# EAGLE library part SPEAKJET (library PracticalArduino)
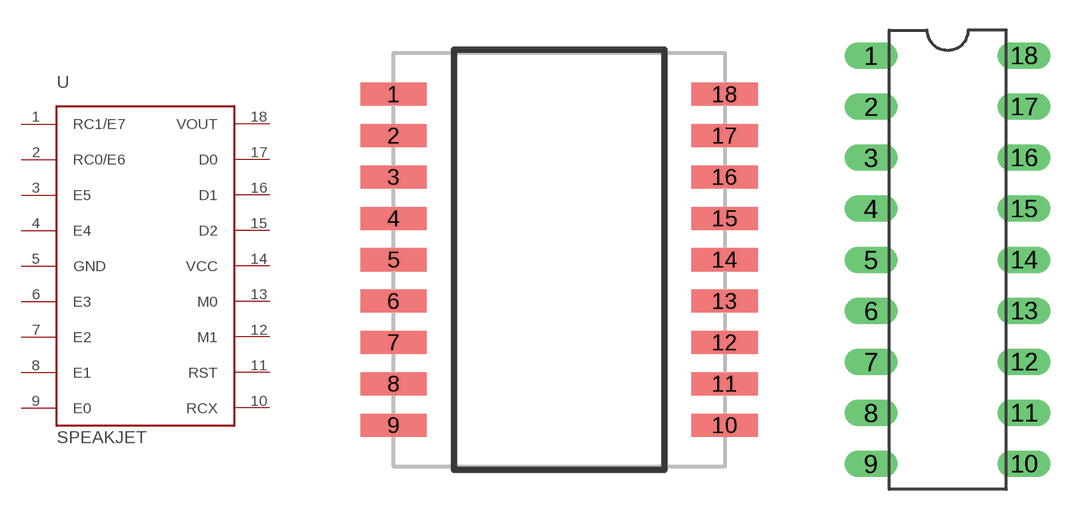
[diagram p0: symbol with the pads of SOIC18; footprints SOIC18, DIL-18]

Designator prefix -

## SPEAKJETSOIC18  [SOIC18]
1  RC1/E7
2  RC0/E6
3  E5
4  E4
5  GND
6  E3
7  E2
8  E1
9  E0
10  RCX
11  RST
12  M1
13  M0
14  VCC
15  D2
16  D1
17  D0
18  VOUT

## SPEAKJETDIL-18  [DIL-18]
Pads as for SOIC18

## Footprint SOIC18 (pad centres in mm)
smd 2 x 0.7: 1 -5,5; 2 -5,3.75; 3 -5,2.5; 4 -5,1.25; 5 -5,0; 6 -5,-1.25; 7 -5,-2.5; 8 -5,-3.75; 9 -5,-5; 10 5,-5; 11 5,-3.75; 12 5,-2.5; 13 5,-1.25; 14 5,0; 15 5,1.25; 16 5,2.5; 17 5,3.75; 18 5,5

## Footprint DIL-18 (pad centres in mm)
drill 0.813 long: 1 -3.81,8.89; 2 -3.81,6.35; 3 -3.81,3.81; 4 -3.81,1.27; 5 -3.81,-1.27; 6 -3.81,-3.81; 7 -3.81,-6.35; 8 -3.81,-8.89; 9 -3.81,-11.43; 10 3.81,-11.43; 11 3.81,-8.89; 12 3.81,-6.35; 13 3.81,-3.81; 14 3.81,-1.27; 15 3.81,1.27; 16 3.81,3.81; 17 3.81,6.35; 18 3.81,8.89